# EAGLE library part LT1787HVIMS8PBF (library LT1787HVIMS8PBF)
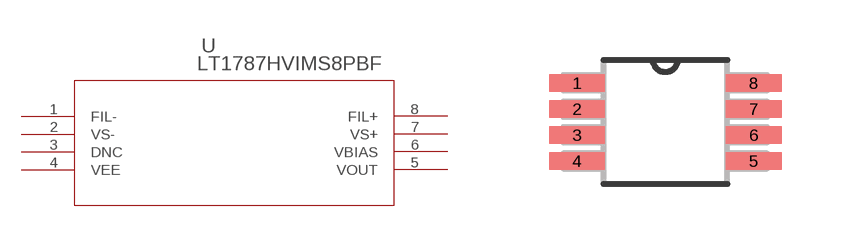
[diagram p0: symbol with the pads of MSOP-8_MS; footprint MSOP-8_MS]

Designator prefix U

## LT1787HVIMS8PBF (Description: Current Sense Amplifier 1 Circuit 8-MSOP; Digi-Key_Part_Number: LT1787HVIMS8#PBF-ND; MF: Linear Technology; MP: LT1787HVIMS8#PBF; Package: MSOP-8 Linear Technology; Purchase-URL: https://pricing.snapeda.com/search/part/LT1787HVIMS8#PBF/?ref=eda)  [MSOP-8_MS]
1  FIL-  pas
2  VS-  in
3  DNC  nc
4  VEE  pwr
5  VOUT  out
6  VBIAS  out
7  VS+  in
8  FIL+  pas

## Footprint MSOP-8_MS (pad centres in mm)
smd 1.397 x 0.432: 1 -2.21,0.975; 2 -2.21,0.325; 3 -2.21,-0.325; 4 -2.21,-0.975; 5 2.21,-0.975; 6 2.21,-0.325; 7 2.21,0.325; 8 2.21,0.975